# Altium integrated library ZXMS6004FFQTA.IntLib: 1 symbol
Pins are listed as number, name and electrical type; pins without a type are passive.

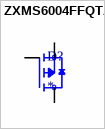
[diagram p0: symbol ZXMS6004FFQTA]

## ZXMS6004FFQTA
designator D?
footprint SOT95P240X100-3N
pins: 1 G, 2 S, 3 D